# Altium schematic symbol library Switches.SchLib: 1 symbol
Pins are listed as number, name and electrical type; pins without a type are passive.

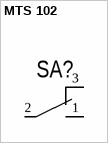
[diagram p0: symbol MTS 102]

## MTS 102
designator SA?  (value not drawn)
Miniature Toogle Switch 1-Pole; Manufacture: Jietong Switch; Part Number: MTS-102; ComponentLink1Description: MTS-102; ComponentLink1URL: https://static.chipdip.ru/lib/243/DOC000243094.pdf; ComponentLink2Description: Switch MTS Series; ComponentLink2URL: http://www.jietongswitch.com/uploads/2015330/Miniature%20Toggle%20Switch.pdf; ComponentLink3Description: Jietong Switch Site; ComponentLink3URL: http://www.jietongswitch.com/en/product.asp
footprint Switch MTS-102-A2 (Miniature Toogle Switch 1-Pole)
pins: 1, 2, 3